# Altium footprint library PCBLib.PcbLib: 35 footprints (part 2 of 3)
Each footprint in its own frame and in the unit in brackets; x right, y up, seen from the top. Pads: shape width x height; smd on the part's side, far side on the other; paste and mask are expansions set on the pad; w line width, h text height; cw(c..) or ccw(c..) is an arc to the next point about the centre after c.
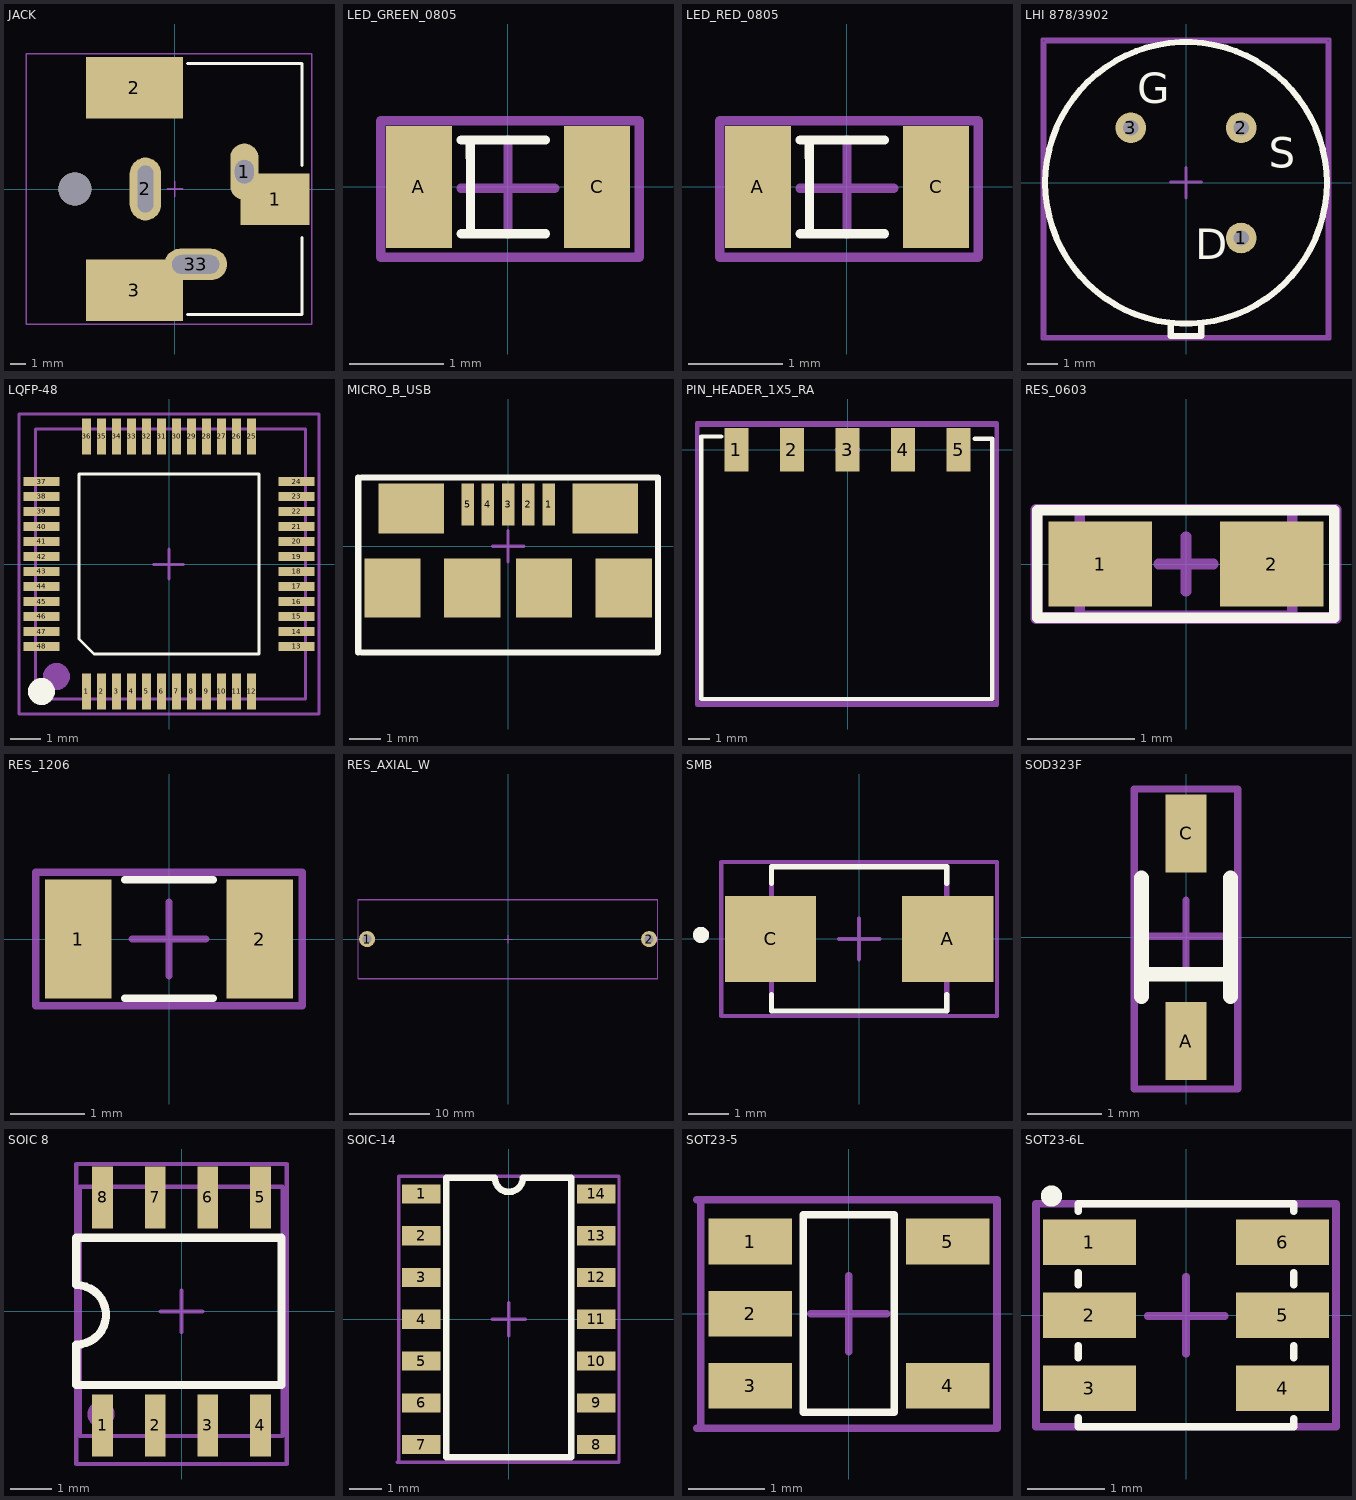
[diagram p1: the footprints below, top view; thin cyan lines are the x and y axes]

## JACK [mm] "PJ-037AH-SMT-TR"
pads (7):
  oval 1.8x3.6 hole 1.2 slot 1.5 at 90 deg mask+0.05: 1(4.425,1.1)
  rect 4.4x3.3 smd mask+0.05: 1(6.375,-0.65)
  rect 6.2x3.9 smd mask+0.05: 2(-2.575,6.45) 3(-2.575,-6.45)
  oval 2x4 hole 1 slot 3 at 90 deg mask+0.05: 2(-1.875,0)
  oval 4x2 hole 1.2 slot 3 at 0 deg mask+0.05: 33(1.325,-4.8)
  round 2.1 hole 2.1 unplated mask+0.05: ""(-6.375,0)
Top Overlay:
  lines w0.2: 0.8,-8 8.1,-8 8.1,-3.1 ; 0.8,8 8.1,8 8.1,1.5
Top Component Center:
  lines w0.1: -0.5,0 0.5,0 ; 0,-0.5 0,0.5 ; -9.475,-8.6 -9.475,-4.3 -9.475,4.3 -9.475,8.6 8.725,8.6 8.725,-8.6 -9.475,-8.6
Top Designator:
  lines w0.1: -9.475,-8.6 -9.475,-4.3 -9.475,4.3 -9.475,8.6 8.725,8.6 8.725,-8.6 -9.475,-8.6
  text ".Designator" at -3.7,-0.734 h2
3D body "CUI_DEVICES_PJ-037AH-SMT-TR.step": height 11.1, standoff -3.3, extent -9.375,-7.6 7.725,7.6

## LED_GREEN_0805 [mm]
pads (2):
  rect 0.7x1.3 smd mask+0.05: A(-0.95,0) C(0.95,0)
Top Overlay:
  lines w0.1: -0.5,-0.5 -0.2,-0.5 0.4,-0.5 ; -0.5,0.5 -0.2,0.5 0.4,0.5 ; -0.401,0.495 -0.4,0.1 -0.4,0 -0.4,-0.45
Top Component Center:
  lines w0.1: -0.502,-0.014 0.498,-0.014 ; 0,-0.5 0,0.5 ; -1.357,-0.749 1.4,-0.749 1.4,0.705 -1.357,0.705 -1.357,-0.749
Top Designator:
  lines w0.1: -1.357,-0.749 -1.357,0.705 1.4,0.705 1.4,-0.749 -1.357,-0.749
  text ".Designator" at -1.2,-0.133 h0.5
3D body "LED-0805-Green.step": height 0.8, standoff -0.01, extent -1.01,-0.625 1.01,0.625

## LED_RED_0805 [mm]
pads (2):
  rect 0.7x1.3 smd mask+0.05: A(-0.95,0) C(0.95,0)
Top Overlay:
  lines w0.1: -0.5,-0.5 -0.2,-0.5 0.4,-0.5 ; -0.5,0.5 -0.2,0.5 0.4,0.5 ; -0.401,0.495 -0.4,0.1 -0.4,0 -0.4,-0.45
Top Component Center:
  lines w0.1: -0.502,-0.014 0.498,-0.014 ; 0,-0.5 0,0.5 ; -1.357,-0.749 -1.357,0.705 1.4,0.705 1.4,-0.749 -1.357,-0.749
Top Designator:
  lines w0.1: -1.357,-0.749 1.4,-0.749 1.4,0.705 -1.357,0.705 -1.357,-0.749
  text ".Designator" at -1.2,-0.133 h0.5
3D body "LED-0805-Red.step": height 0.8, standoff -0.01, extent -1.01,-0.625 1.01,0.625

## LHI 878/3902 [mm]
pads (3):
  round 1 hole 0.5 mask+0.05: 1(1.8,-1.8) 2(1.8,1.8) 3(-1.8,1.8)
Top Overlay:
  circle w0.2: c0,0 r4.6
  lines w0.2: -0.5,-4.6 -0.5,-5 0.5,-5 0.5,-4.6
  text "D" at 0.3,-2.5 h1
  text "S" at 2.7,0.5 h1
  text "G" at -1.6,2.6 h1
Top Component Center:
  lines w0.1: -0.502,0.024 0.498,0.024 ; 0,-0.5 0,0.5 ; -4.7,-5.1 -4.7,4.7 4.7,4.7 4.7,-5.1 -4.7,-5.1
Top Designator:
  lines w0.1: -4.6,-5.019 4.6,-5.019 4.6,4.6 -4.6,4.6 -4.6,-5.019
  text ".Designator" at -1.5,-0.467 h1
3D body "User Library-LHI878.step": height 4.52, standoff -2.48, extent -4.6,-5.029 4.6,4.6

## LQFP-48 [mm] "7mm x 7mm"
pads (48):
  rect 0.3x1.2 smd mask+0.05: 1(-2.75,-4.25) 2(-2.25,-4.25) 3(-1.75,-4.25) 4(-1.25,-4.25) 5(-0.75,-4.25) 6(-0.25,-4.25) 7(0.25,-4.25) 8(0.75,-4.25) 9(1.25,-4.25) 10(1.75,-4.25) 11(2.25,-4.25) 12(2.75,-4.25) 25(2.75,4.25) 26(2.25,4.25) 27(1.75,4.25) 28(1.25,4.25) 29(0.75,4.25) 30(0.25,4.25) 31(-0.25,4.25) 32(-0.75,4.25) 33(-1.25,4.25) 34(-1.75,4.25) 35(-2.25,4.25) 36(-2.75,4.25)
  rect 1.2x0.3 smd mask+0.05: 13(4.25,-2.75) 14(4.25,-2.25) 15(4.25,-1.75) 16(4.25,-1.25) 17(4.25,-0.75) 18(4.25,-0.25) 19(4.25,0.25) 20(4.25,0.75) 21(4.25,1.25) 22(4.25,1.75) 23(4.25,2.25) 24(4.25,2.75) 37(-4.25,2.75) 38(-4.25,2.25) 39(-4.25,1.75) 40(-4.25,1.25) 41(-4.25,0.75) 42(-4.25,0.25) 43(-4.25,-0.25) 44(-4.25,-0.75) 45(-4.25,-1.25) 46(-4.25,-1.75) 47(-4.25,-2.25) 48(-4.25,-2.75)
Top Overlay:
  circle w0.5: c-4.25,-4.25 r0.2
  lines w0.1: -3,-2.5 -3,3 3,3 3,-3 -2.5,-3 -3,-2.5
Top 3D Body:
  circle w0.5: c-3.75,-3.75 r0.2
  lines w0.1: -4.448,-4.501 -4.448,4.5 4.55,4.5 4.55,-4.501 -4.448,-4.501
Top Component Center:
  lines w0.1: -0.512,-0.018 0.488,-0.018 ; 0,-0.5 0,0.5 ; -5,-5 -5,5 5,5 5,-5 -5,-5
Top Designator:
  lines w0.1: -5,-5 5,-5 5,5 -5,5 -5,-5
  text ".Designator" at -2.118,-0.508 h1.52
3D body "STM32-LQFP48.SLDPRT": height 1.5, standoff 0, extent -4.45,-4.5 4.55,4.5

## MICRO_B_USB [mm]
pads (11):
  rect 0.4x1.35 smd mask+0.05: 1(1.3,1.338) 2(0.65,1.338) 3(0,1.338) 4(-0.65,1.338) 5(-1.3,1.338)
  rect 1.8x1.9 smd mask+0.05: ""(-3.7,-1.338) ""(-1.15,-1.338) ""(1.15,-1.338) ""(3.7,-1.338)
  rect 2.1x1.6 smd mask+0.05: ""(-3.1,1.212) ""(3.106,1.212)
Top Overlay:
  lines w0.2: -4.8,-3.4 -4.8,-2.3 -4.8,2.2 ; -4.7,-3.4 4.8,-3.4 4.8,2.2 -4.7,2.2
Top Component Center:
  lines w0.1: -4.808,-3.401 -4.808,-2.001 -4.808,0.799 -4.808,2.199 4.792,2.199 4.792,-3.401 -4.708,-3.401 ; -0.5,0 0.5,0 ; 0,-0.5 0,0.5
Top Designator:
  lines w0.1: -4.8,-3.4 -4.8,-2 -4.8,0.8 -4.8,2.2 4.8,2.2 4.8,-3.4 -4.7,-3.4
  text ".Designator" at -2.6,-0.934 h2
3D body "10118192-0001LF--3DModel-STEP-269445.STEP": height 2.55, standoff -0.24, extent -3.955,-4 3.955,1.666

## PIN_HEADER_1X5_RA [mm] "SMH-105-02-L-S"
pads (5):
  rect 1.1x2 smd mask+0.05: 1(-5.08,0) 2(-2.54,0) 3(0,0) 4(2.54,0) 5(5.08,0)
Top Overlay:
  lines w0.2: -5.78,0.6 -6.68,0.6 -6.68,-11.4 6.62,-11.4 6.62,0.5 5.82,0.5
Top Component Center:
  lines w0.2: -0.5,0 0.5,0 ; 0,-0.5 0,0.5 ; -6.866,-11.652 -6.866,1.148 6.834,1.148 6.834,-11.652 -6.866,-11.652
Top Designator:
  lines w0.2: -6.88,-11.6 6.82,-11.6 6.82,1.2 -6.88,1.2 -6.88,-11.6
  text ".Designator" at -3.5,-4.834 h2
3D body "SMH-105-02-L-S.stp": height 2.41, standoff -0.01, extent -6.619,-11.449 6.589,0.489

## RES_0603 [mil]
pads (2):
  rect 38x31 smd mask+1.97: 1(-31.5,0) 2(31.5,0)
Top Overlay:
  lines w3.94: -54.5,-19.7 -54.5,19.7 54.4,19.7 54.4,8.93 54.4,-8.32 54.4,-19.7 -54.5,-19.7
Top 3D Body:
  lines w3.94: -39,-19 39,-19 39,20 -39,20 -39,-19
Top Component Center:
  lines w3.94: -10,0 10,0 ; 0,-10 0,10 ; -54.5,-19.5 54.5,-19.5 54.5,19.9 -54.5,19.9 -54.5,-19.5
Top Designator:
  lines w3.94: -55,-20 55,-20 55,20 -55,20 -55,-20
  text ".Designator" at -33.13,-22.19 h23.62
3D body "0603S1.STEP": height 16.89, standoff -0.83, extent -38.92,-18.56 38.92,20

## RES_1206 [mm]
pads (2):
  rect 0.9x1.6 smd mask+0.05: 1(-1.225,0) 2(1.225,0)
Top Overlay:
  lines w0.1: -0.6,-0.8 0.6,-0.8 ; -0.6,0.8 0.6,0.8
Top Component Center:
  lines w0.1: -0.5,0 0.5,0 ; 0,-0.5 0,0.5 ; -1.8,-0.9 -1.8,0.9 1.8,0.9 1.8,-0.9 -1.8,-0.9
Top Designator:
  lines w0.1: -1.8,-0.9 -1.8,0.9 1.8,0.9 1.8,-0.9 -1.8,-0.9
  text ".Designator" at -1.35,-0.283 h0.8
3D body "RESISTOR 1206.step": height 0.53, standoff -0.03, extent -1.6,-0.83 1.6,0.83

## RES_AXIAL_W [mm]
pads (2):
  round 2 hole 1.1 mask+0.05: 1(-17.5,0) 2(17.5,0)
Top Component Center:
  lines w0.1: -0.5,0 0.5,0 ; 0,-0.5 0,0.5 ; -18.629,-4.885 18.571,-4.885 18.571,4.915 -18.629,4.915 -18.629,-4.885
Top Designator:
  lines w0.1: -18.6,-4.9 -18.6,4.9 18.6,4.9 18.6,-4.9 -18.6,-4.9
  text ".Designator" at -4.9,-0.034 h2
3D body: height 5.3, standoff 4.5, extent -17.5,-0.4 -8.5,0.4
3D body: height 4.9, standoff -4.1, extent -17.9,-0.4 -17.1,0.4
3D body: height 5.3, standoff 4.5, extent -17.9,-0.4 -17.1,0.4
3D body: height 9.65, standoff 0, extent -10.975,-4.8 11.025,4.85
3D body: height 5.3, standoff 4.5, extent 8.5,-0.4 17.5,0.4
3D body: height 4.9, standoff -4.1, extent 17.1,-0.4 17.9,0.4
3D body: height 5.3, standoff 4.5, extent 17.1,-0.4 17.9,0.4

## SMB [mm] "1SMB5919BT3G"
pads (2):
  rect 2.25x2.12 smd mask+0.05: A(2.185,0) C(-2.185,0)
Top Overlay:
  circle w0.2: c-3.9,0.1 r0.1
  lines w0.127: -2.16,-1.374 -2.16,-1.78 2.16,-1.78 2.16,-1.374 ; -2.16,1.374 -2.16,1.78 2.16,1.78 2.16,1.374
Top 3D Body:
  lines w0.127: -2.16,-1.78 -2.16,1.78 ; 2.16,-1.78 2.16,1.78
Top Component Center:
  lines w0.1: -0.5,0 0.5,0 ; 0,-0.5 0,0.5 ; -3.401,-1.902 3.399,-1.902 3.399,1.898 -3.401,1.898 -3.401,-1.902
Top Designator:
  lines w0.1: -3.4,-1.9 3.4,-1.9 3.4,1.9 -3.4,1.9 -3.4,-1.9
  text ".Designator" at -1.7,-0.4 h1.2
3D body "step_temp.STEP": height 2.44, standoff -0.03, extent -2.72,-1.78 2.72,1.78

## SOD323F [mm] "1N4148WS"
pads (2):
  rect 0.55x1.05 smd mask+0.05: A(0,-1.4) C(0,1.4)
Top Overlay:
  lines w0.2: -0.6,-0.8 -0.6,-0.5 ; -0.6,0.8 -0.6,-0.5 ; 0.6,-0.8 0.6,-0.5 ; 0.6,0.8 0.6,-0.5 ; -0.6,-0.5 0.6,-0.5
Top Component Center:
  lines w0.1: -0.495,0.015 0.505,0.015 ; 0,-0.5 0,0.5 ; -0.7,-2.047 0.7,-2.047 0.7,2 -0.7,2 -0.7,-2.047
Top Designator:
  lines w0.1: -0.7,-2.047 -0.7,2 0.7,2 0.7,-2.047 -0.7,-2.047
  text ".Designator" at 0.133,-0.8 h0.5
3D body "1N4148WS.step": height 0.9, standoff 0, extent -0.625,-1.25 0.625,1.25

## SOIC 8 [mm]
pads (8):
  rect 0.5x1.5 smd mask+0.05: 1(-1.905,-2.75) 2(-0.635,-2.75) 3(0.635,-2.75) 4(1.905,-2.75) 5(1.905,2.75) 6(0.635,2.75) 7(-0.635,2.75) 8(-1.905,2.75)
Top Overlay:
  lines w0.2: -2.54,-1.778 2.413,-1.778 2.413,1.778 -2.159,1.778 -2.54,1.778 -2.54,0.635 cw(c-2.54,-0.083) -2.54,-0.802 -2.54,-1.778
Top 3D Body:
  circle w0.4: c-1.942,-2.481 r0.127
  lines w0.1: -2.455,-3.007 2.436,-3.007 2.436,3.007 -2.455,3.007 -2.455,-3.007
Top Component Center:
  lines w0.1: -0.5,0 0.5,0 ; 0,-0.5 0,0.5 ; -2.54,-3.683 -2.54,3.556 2.54,3.556 2.54,-3.683 -2.54,-3.683
Top Designator:
  lines w0.1: -2.54,-3.683 2.54,-3.683 2.54,3.556 -2.54,3.556 -2.54,-3.683
  text ".Designator" at 0.2,-1.7 h1.2
3D body "User Library-so8-3.step": height 1.7, standoff 0, extent -2.45,-3 2.45,3

## SOIC-14 [mm]
pads (14):
  rect 1.18x0.58 smd mask+0.05: 1(-2.66,3.81) 2(-2.66,2.54) 3(-2.66,1.27) 4(-2.66,0) 5(-2.66,-1.27) 6(-2.66,-2.54) 7(-2.66,-3.81) 8(2.66,-3.81) 9(2.66,-2.54) 10(2.66,-1.27) 11(2.66,0) 12(2.66,1.27) 13(2.66,2.54) 14(2.66,3.81)
Top Overlay:
  lines w0.2: -0.424,4.296 ccw(c0,4.296) 0.424,4.296 ; -0.424,4.3 -1.9,4.3 -1.9,-4.2 1.9,-4.2 1.9,4.3 0.424,4.3
Top Component Center:
  lines w0.1: -3.4,-4.35 3.35,-4.35 3.35,4.35 -3.35,4.35 -3.35,-4.35 ; -0.5,0 0.5,0 ; 0,-0.5 0,0.5
Top Designator:
  lines w0.1: -3.4,-4.35 3.35,-4.35 3.35,4.35 -3.35,4.35 -3.35,-4.35
  text ".Designator" at -1.28,-0.513 h1.4
3D body "NCS36000.STEP": height 0.82, standoff -0.97, extent -3,-4.28 3,4.28

## SOT23-5 [mm] "OPA314AIDBVR"
pads (5):
  rect 1.1x0.6 smd mask+0.05: 1(-1.3,0.95) 2(-1.3,0) 3(-1.3,-0.95) 4(1.3,-0.95) 5(1.3,0.95)
Top Overlay:
  lines w0.1: -0.6,-1.3 0.6,-1.3 0.6,1.3 -0.6,1.3 -0.6,-1.3
Top Component Center:
  lines w0.1: -2,-1.509 1.951,-1.509 ; -2,1.5 1.951,1.5 ; -1.95,-1.509 -1.95,1.5 ; -0.5,0 0.5,0 ; 0,-0.5 0,0.5 ; 1.95,-1.509 1.95,1.5
Top Designator:
  lines w0.1: -2,-1.509 1.951,-1.509 ; -2,1.5 1.951,1.5 ; -1.95,-1.509 -1.95,1.5 ; 1.95,-1.509 1.95,1.5
  text ".Designator" at -1.38,-0.413 h1.4
3D body "SOT23-5.STEP": height 1.45, standoff 0, extent -1.4,-1.45 1.4,1.45

## SOT23-6L [mm]
pads (6):
  rect 1.21x0.59 smd mask+0.05: 1(-1.255,0.95) 2(-1.255,0) 3(-1.255,-0.95) 4(1.255,-0.95) 5(1.255,0) 6(1.255,0.95)
Top Overlay:
  circle w0.2: c-1.75,1.55 r0.037
  lines w0.1: -1.402,-1.331 -1.4,-1.45 1.4,-1.45 1.4,-1.35 ; -1.4,-0.55 -1.4,-0.4 ; -1.4,0.4 -1.4,0.55 ; -1.4,1.35 -1.4,1.45 1.4,1.45 1.4,1.35 ; 1.4,-0.55 1.4,-0.4 ; 1.4,0.4 1.4,0.55
Top Component Center:
  lines w0.1: -0.496,-0.011 0.504,-0.011 ; 0,-0.5 0,0.5 ; -1.95,-1.45 1.95,-1.45 1.95,1.45 -1.95,1.45 -1.95,-1.45
Top Designator:
  lines w0.1: -1.95,-1.45 1.95,-1.45 1.95,1.45 -1.95,1.45 -1.95,-1.45
  text ".Designator" at -1.13,-0.463 h1.4
3D body "USBLC6-2SC6.STEP": height 1.45, standoff 0, extent -1.4,-1.462 1.4,1.462